# EAGLE library part PCF8574 (library PCF8574)
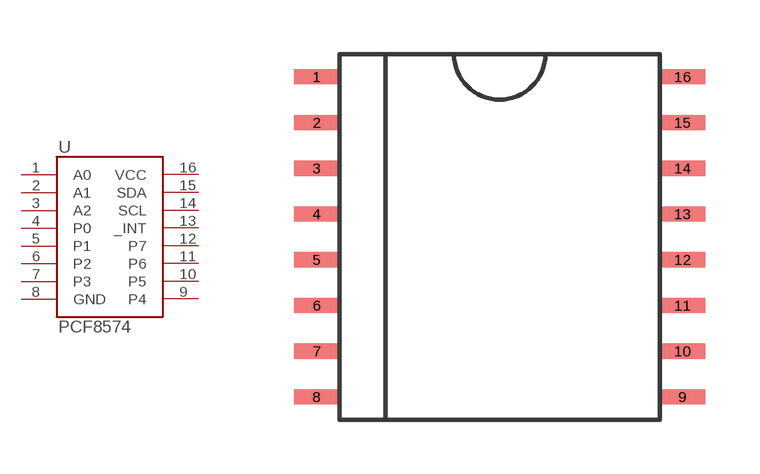
[diagram p0: symbol with the pads of SO16; footprint SO16]

Designator prefix U

## PCF8574 (Description: I/O Expander 8 I²C 100kHz 20-TSSOP; Digi-Key_Part_Number: 296-13107-1-ND; Digi-Key_Purchase_URL: https://www.digikey.nl/product-detail/en/texas-instruments/PCF8574APWR/296-13107-1-ND/484523?utm_source=snapeda&utm_medium=aggregator&utm_campaign=symbol; MF: Texas Instruments; MP: PCF8574; Package: SOIC-16 Texas Instruments)  [SO16]
1  A0
2  A1
3  A2
4  P0
5  P1
6  P2
7  P3
8  GND
9  P4
10  P5
11  P6
12  P7
13  _INT
14  SCL
15  SDA
16  VCC

## Footprint SO16 (pad centres in mm)
smd 1.27 x 0.419: 1 -5.08,4.445; 2 -5.08,3.175; 3 -5.08,1.905; 4 -5.08,0.635; 5 -5.08,-0.635; 6 -5.08,-1.905; 7 -5.08,-3.175; 8 -5.08,-4.445; 9 5.08,-4.445; 10 5.08,-3.175; 11 5.08,-1.905; 12 5.08,-0.635; 13 5.08,0.635; 14 5.08,1.905; 15 5.08,3.175; 16 5.08,4.445